# Altium footprint library TME2405S.PcbLib: 1 footprints
Each footprint in its own frame and in the unit in brackets; x right, y up, seen from the top. Pads: shape width x height; smd on the part's side, far side on the other; paste and mask are expansions set on the pad; w line width, h text height; cw(c..) or ccw(c..) is an arc to the next point about the centre after c.
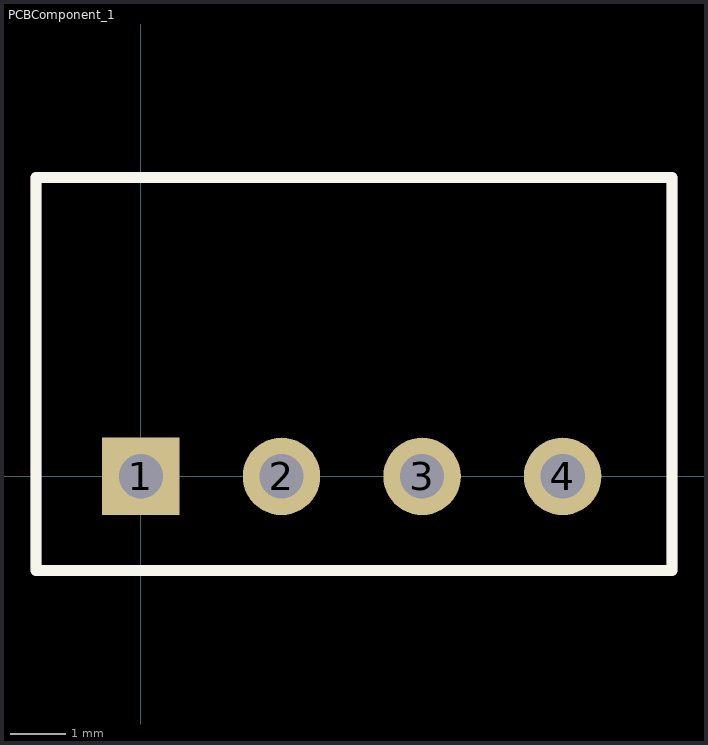
[diagram p0: the footprint, top view; thin cyan lines are the x and y axes]

## PCBComponent_1 [mm]
pads (4):
  rect 1.4x1.4 hole 0.8: 1(0,0)
  round 1.4 hole 0.8: 2(2.54,0) 3(5.08,0) 4(7.62,0)
Top Overlay:
  lines w0.2: -1.9,-1.7 -1.9,5.4 9.6,5.4 9.6,-1.7 -1.9,-1.7
Mechanical 1:
  circle w0.7: c0,0 r0.071
  lines w0.2: -1.9,-1.7 -1.9,5.4 9.6,5.4 9.6,-1.7 -1.9,-1.7
  text ".Designator" at -1.725,5.955 h1.5
Mechanical 15:
  lines w0.2: -1.9,-1.7 -1.9,5.4 9.6,5.4 9.6,-1.7 -1.9,-1.7
3D body "TME2405S.step": height 10.2, standoff -3.2, extent -1.9,-1.7 9.6,5.4